# Altium schematic symbol library SCH - ARM Cortex - NXP K32L2B31VFT0A.SchLib: 1 symbol
Pins are listed as number, name and electrical type; pins without a type are passive.

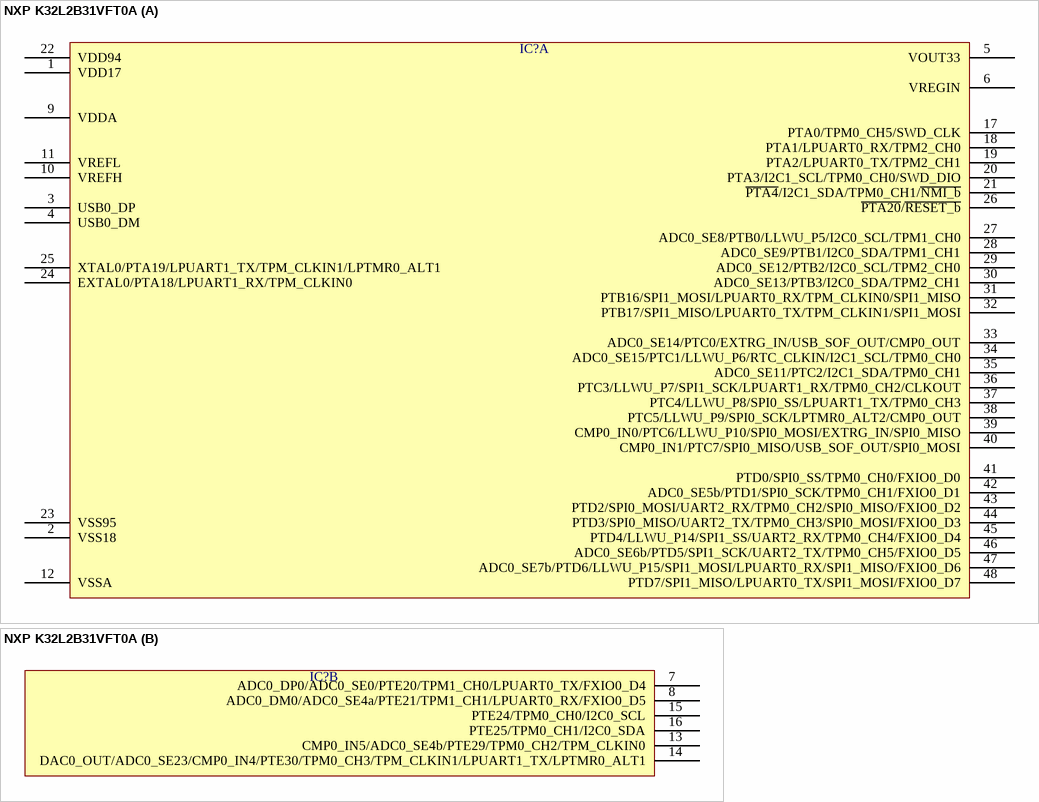
[diagram p0: symbol NXP K32L2B31VFT0A]

## NXP K32L2B31VFT0A
designator IC?  (value not drawn)
part A pins: 1 VDD17, 2 VSS18, 3 USB0_DP, 4 USB0_DM, 5 VOUT33, 6 VREGIN, 9 VDDA, 10 VREFH, 11 VREFL, 12 VSSA, 17 PTA0/TPM0_CH5/SWD_CLK, 18 PTA1/LPUART0_RX/TPM2_CH0, 19 PTA2/LPUART0_TX/TPM2_CH1, 20 PTA3/I2C1_SCL/TPM0_CH0/SWD_DIO, 21 ~{PTA4}/I2C1_SDA/TPM0_CH1/~{NMI_b}, 22 VDD94, 23 VSS95, 24 EXTAL0/PTA18/LPUART1_RX/TPM_CLKIN0, 25 XTAL0/PTA19/LPUART1_TX/TPM_CLKIN1/LPTMR0_ALT1, 26 ~{PTA20}/~{RESET_b}, 27 ADC0_SE8/PTB0/LLWU_P5/I2C0_SCL/TPM1_CH0, 28 ADC0_SE9/PTB1/I2C0_SDA/TPM1_CH1, 29 ADC0_SE12/PTB2/I2C0_SCL/TPM2_CH0, 30 ADC0_SE13/PTB3/I2C0_SDA/TPM2_CH1, 31 PTB16/SPI1_MOSI/LPUART0_RX/TPM_CLKIN0/SPI1_MISO, 32 PTB17/SPI1_MISO/LPUART0_TX/TPM_CLKIN1/SPI1_MOSI, 33 ADC0_SE14/PTC0/EXTRG_IN/USB_SOF_OUT/CMP0_OUT, 34 ADC0_SE15/PTC1/LLWU_P6/RTC_CLKIN/I2C1_SCL/TPM0_CH0, 35 ADC0_SE11/PTC2/I2C1_SDA/TPM0_CH1, 36 PTC3/LLWU_P7/SPI1_SCK/LPUART1_RX/TPM0_CH2/CLKOUT, 37 PTC4/LLWU_P8/SPI0_SS/LPUART1_TX/TPM0_CH3, 38 PTC5/LLWU_P9/SPI0_SCK/LPTMR0_ALT2/CMP0_OUT, 39 CMP0_IN0/PTC6/LLWU_P10/SPI0_MOSI/EXTRG_IN/SPI0_MISO, 40 CMP0_IN1/PTC7/SPI0_MISO/USB_SOF_OUT/SPI0_MOSI, 41 PTD0/SPI0_SS/TPM0_CH0/FXIO0_D0, 42 ADC0_SE5b/PTD1/SPI0_SCK/TPM0_CH1/FXIO0_D1, 43 PTD2/SPI0_MOSI/UART2_RX/TPM0_CH2/SPI0_MISO/FXIO0_D2, 44 PTD3/SPI0_MISO/UART2_TX/TPM0_CH3/SPI0_MOSI/FXIO0_D3, 45 PTD4/LLWU_P14/SPI1_SS/UART2_RX/TPM0_CH4/FXIO0_D4, 46 ADC0_SE6b/PTD5/SPI1_SCK/UART2_TX/TPM0_CH5/FXIO0_D5, 47 ADC0_SE7b/PTD6/LLWU_P15/SPI1_MOSI/LPUART0_RX/SPI1_MISO/FXIO0_D6, 48 PTD7/SPI1_MISO/LPUART0_TX/SPI1_MOSI/FXIO0_D7
part B pins: 7 ADC0_DP0/ADC0_SE0/PTE20/TPM1_CH0/LPUART0_TX/FXIO0_D4, 8 ADC0_DM0/ADC0_SE4a/PTE21/TPM1_CH1/LPUART0_RX/FXIO0_D5, 13 CMP0_IN5/ADC0_SE4b/PTE29/TPM0_CH2/TPM_CLKIN0, 14 DAC0_OUT/ADC0_SE23/CMP0_IN4/PTE30/TPM0_CH3/TPM_CLKIN1/LPUART1_TX/LPTMR0_ALT1, 15 PTE24/TPM0_CH0/I2C0_SCL, 16 PTE25/TPM0_CH1/I2C0_SDA